# EAGLE library part TPS60140 (library m_vreg)
TPS60140 LOW POWER DC-DC CONVERTER REGULATED 5 V, 100 mA CHARGE PUMP VOLTAGE TRIPLER Features Regulated 5 V ± 4% Output Voltage With up to 100 mA Output Current From a 1.8 V to 3.6 V Input Voltage Range 65-?A Quiescent Supply Current 0.05-?A Shutdown Current, Battery Is Isolated From Load in Shutdown Integrated Low-Battery or Power-Good Indicator Low Output Voltage Ripple Over Complete Output Current Range Easy-To-Design With Low-EMI Power Supply Since no Inductors Are Required Evaluation Module Available (TPS60140EVM-144)
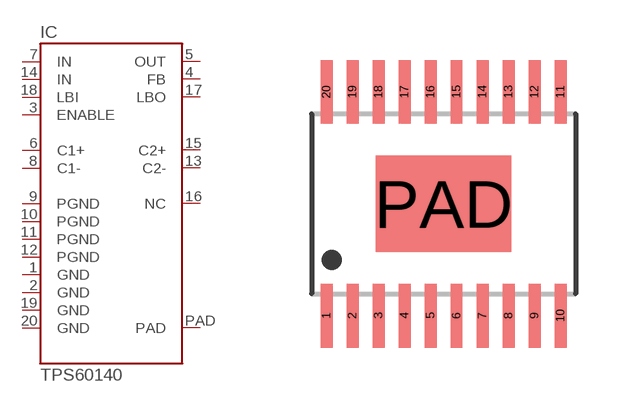
[diagram p5: symbol with the pads of R-PDSO-G20; footprint R-PDSO-G20]

Designator prefix IC

## TPS60140 (MANUF: TI; PARTNUM: TPS60140PWP)  [R-PDSO-G20]
1  GND
2  GND
3  ENABLE
4  FB
5  OUT
6  C1+
7  IN
8  C1-
9  PGND
10  PGND
11  PGND
12  PGND
13  C2-
14  IN
15  C2+
16  NC
17  LBO
18  LBI
19  GND
20  GND
PAD  PAD

## Footprint R-PDSO-G20 (pad centres in mm)
TI PWP (R-PDSO-G20) PowerPad Plastic Small Outline
smd 0.3 x 1.6: 1 -2.925,-2.8; 2 -2.275,-2.8; 3 -1.625,-2.8; 4 -0.975,-2.8; 5 -0.325,-2.8; 6 0.325,-2.8; 7 0.975,-2.8; 8 1.625,-2.8; 9 2.275,-2.8; 10 2.925,-2.8; 11 2.925,2.8; 12 2.275,2.8; 13 1.625,2.8; 14 0.975,2.8; 15 0.325,2.8; 16 -0.325,2.8; 17 -0.975,2.8; 18 -1.625,2.8; 19 -2.275,2.8; 20 -2.925,2.8
smd 3.38 x 2.4: PAD 0,0